# EAGLE library part HFTR2/5 (library radiotubes)
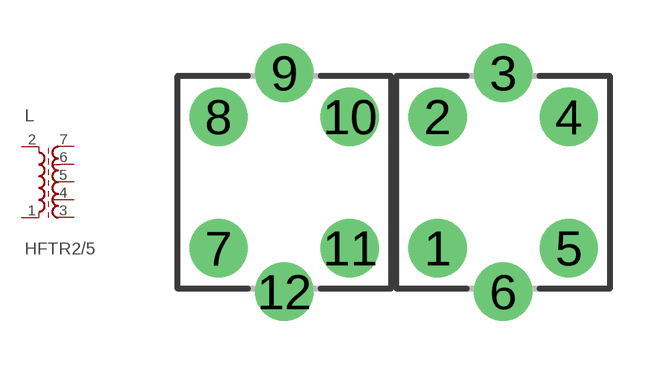
[diagram p98: symbol with the pads of HFTR12P; footprint HFTR12P]

Designator prefix L

## HFTR2/5  [HFTR12P]
1  1  pas
2  2  pas
3  3  pas
4  4  pas
5  5  pas
6  6  pas
7  7  pas

## Footprint HFTR12P (pad centres in mm)
drill 1.1 pad 2: 1 1.5,-2.25; 2 1.5,2.25; 4 6,2.25; 5 6,-2.25; 7 -6,-2.25; 8 -6,2.25; 10 -1.5,2.25; 11 -1.5,-2.25
drill 1.3 pad 2: 3 3.75,3.75; 6 3.75,-3.75; 9 -3.75,3.75; 12 -3.75,-3.75